# Altium schematic symbol library BLDC_BridgeBoard_V1.SCHLIB: 23 symbols
Pins are listed as number, name and electrical type; pins without a type are passive.

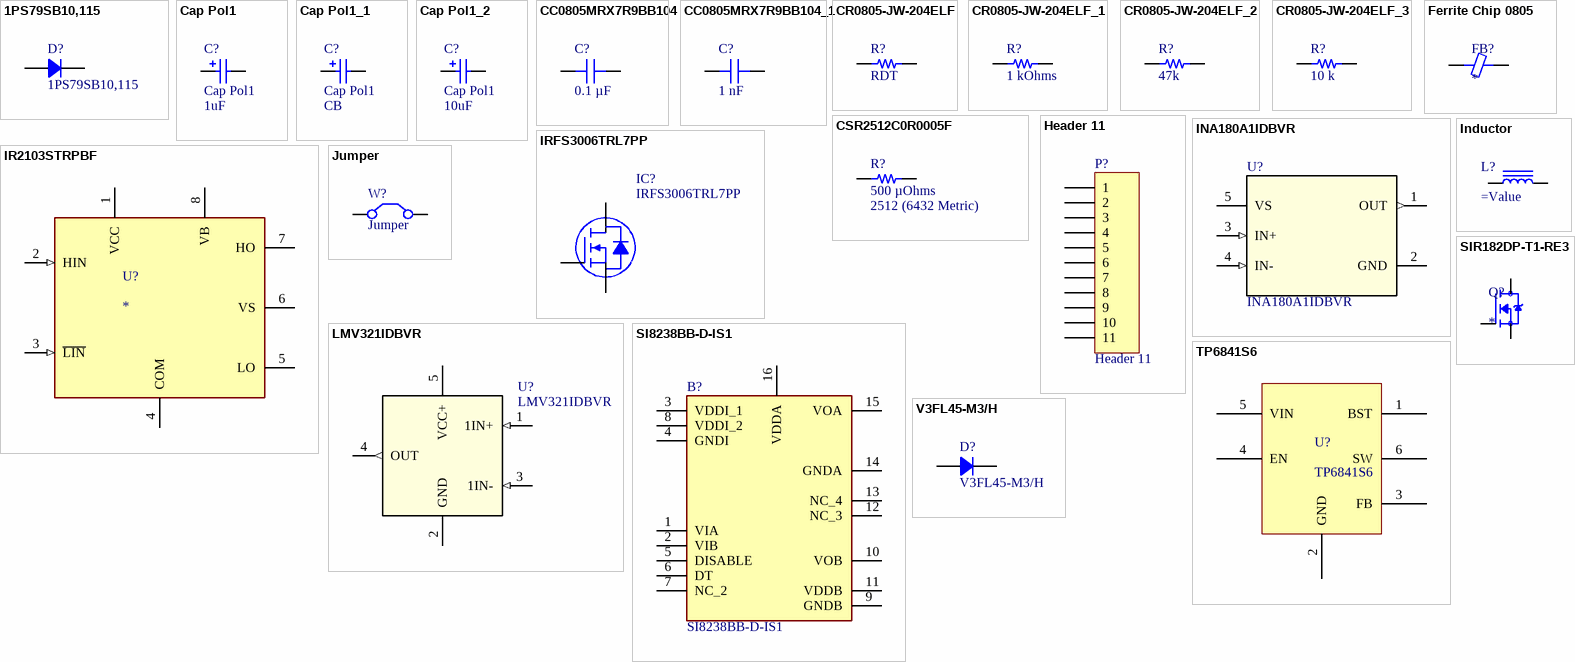
[diagram p0: symbols 1PS79SB10,115 to V3FL45-M3/H]

## 1PS79SB10,115
designator D?
DIODE SCHOTTKY 30V 200MA SOD523; Manufacturer: Nexperia USA Inc.; Capacitance @ Vr, F: 10pF @ 1V, 1MHz; Current - Reverse Leakage @ Vr: 2 µA @ 25 V; Speed: Small Signal =< 200mA (Io), Any Speed; Voltage - Forward (Vf) (Max) @ If: 800 mV @ 100 mA; Part Number: 1PS79SB10,115; ComponentLink1Description: Datasheet; ComponentLink1URL: https://assets.nexperia.com/documents/data-sheet/1PS79SB10.pdf; ComponentLink2Description: DigiKey Link; ComponentLink2URL: https://www.digikey.com/en/products/detail/nexperia-usa-inc/1PS79SB10-115/1229075; Current - Average Rectified (Io): 200mA; Diode Type: Schottky; LastUpdated: 23/11/2023 21:28:29; Lifecycle Status: Active; Minimum Order: 1; Mounting Type: Surface Mount; Operating Temperature - Junction: 125°C (Max); Package / Case: SC-79, SOD-523; Packaging: TapeAndReel; PartId: 2828; Part Status: Active; Price: 0.03; Series: -; Supplier 1: DigiKey; Supplier Part Number 1: 1727-4780-1-ND; Supplier Device Package: SOD-523; Voltage - DC Reverse (Vr) (Max): 30 V
footprint SOD-523
pins: 1, 2

## Cap Pol1
designator C?  value 1uF
Polarized Capacitor (Radial); Published: 8-Jun-2000; LatestRevisionDate: 17-Jul-2002; LatestRevisionNote: Re-released for DXP Platform.; PackageReference: RB7.6-15; Publisher: Altium Limited; PackageDescription: Polarized Capacitor (Radial); 2 Leads
footprint CapacitorRadialElectrolytic
simulation model CAP (Capacitor)
signal-integrity model Cap Pol
footprint CapacitorRadialElectrolytic
pins: 1, 2
1 alternate drawing of the same symbol

## Cap Pol1_1
designator C?, comment Cap Pol1  value CB
Polarized Capacitor (Radial); Published: 8-Jun-2000; LatestRevisionDate: 17-Jul-2002; LatestRevisionNote: Re-released for DXP Platform.; PackageReference: RB7.6-15; Publisher: Altium Limited; PackageDescription: Polarized Capacitor (Radial); 2 Leads
footprint CapacitorRadialElectrolytic
simulation model CAP (Capacitor)
signal-integrity model Cap Pol
footprint CapacitorRadialElectrolytic
pins: 1, 2
1 alternate drawing of the same symbol

## Cap Pol1_2
designator C?, comment Cap Pol1  value 10uF
Polarized Capacitor (Radial); Published: 8-Jun-2000; LatestRevisionDate: 17-Jul-2002; LatestRevisionNote: Re-released for DXP Platform.; PackageReference: RB7.6-15; Publisher: Altium Limited; PackageDescription: Polarized Capacitor (Radial); 2 Leads
footprint CapacitorRadialElectrolytic
simulation model CAP (Capacitor)
signal-integrity model Cap Pol
footprint CapacitorRadialElectrolytic
pins: 1, 2
1 alternate drawing of the same symbol

## CC0805MRX7R9BB104
designator C?, comment 0.1 µF
CAP CER 0.1UF 50V X7R 0805; Part Number: CC0805MRX7R9BB104; manufacturer: Yageo; Tolerance: ±20%; Value: 0.1 µF; Applications: General Purpose; Capacitance: 0.1 µF; componentlink1description: Datasheet; componentlink1url: https://www.yageo.com/upload/media/product/productsearch/datasheet/mlcc/UPY-GPHC_X7R_6.3V-to-50V_18.pdf; componentlink2description: DigiKey Link; componentlink2url: https://www.digikey.com/en/products/detail/yageo/CC0805MRX7R9BB104/5884281; Device Package: 0805 (2012 Metric); lastupdated: 15/11/2023 20:14:20; Lifecycle Status: Active; Minimum Order: 1; Mounting Type: Surface Mount, MLCC; Operating Temperature: -55°C ~ 125°C; Package / Case: 0805 (2012 Metric); packaging: TapeAndReel; partid: 2475; Part Status: Active; price: 0.01; series: CC; Size / Dimension: 0.079" L x 0.049" W (2.00mm x 1.25mm); Supplier 1: DigiKey; Supplier Part Number 1: 311-4351-1-ND; Temperature Coefficient: X7R; Thickness (Max): 0.037" (0.95mm); Voltage - Rated: 50V
footprint CAP 0805_2012
pins: 1, 2

## CC0805MRX7R9BB104_1
designator C?, comment 1 nF
CAP CER 0.1UF 50V X7R 0805; Part Number: CC0805MRX7R9BB104; manufacturer: Yageo; Capacitance: 0.1 µF; Tolerance: ±20%; Applications: General Purpose; componentlink1description: Datasheet; componentlink1url: https://www.yageo.com/upload/media/product/productsearch/datasheet/mlcc/UPY-GPHC_X7R_6.3V-to-50V_18.pdf; componentlink2description: DigiKey Link; componentlink2url: https://www.digikey.com/en/products/detail/yageo/CC0805MRX7R9BB104/5884281; Device Package: 0805 (2012 Metric); lastupdated: 15/11/2023 20:14:20; Lifecycle Status: Active; Minimum Order: 1; Mounting Type: Surface Mount, MLCC; Operating Temperature: -55°C ~ 125°C; Package / Case: 0805 (2012 Metric); packaging: TapeAndReel; partid: 2475; Part Status: Active; price: 0.01; series: CC; Size / Dimension: 0.079" L x 0.049" W (2.00mm x 1.25mm); Supplier 1: DigiKey; Supplier Part Number 1: 311-4351-1-ND; Temperature Coefficient: X7R; Thickness (Max): 0.037" (0.95mm); Voltage - Rated: 50V; Value: 1 nF
footprint CAP 0805_2012
pins: 1, 2

## CR0805-JW-204ELF
designator R?, comment RDT
RES SMD 200K OHM 5% 1/8W 0805; Part Number: CR0805-JW-204ELF; Manufacturer: Bourns Inc.; Power (Watts): 0.125W, 1/8W; Resistance: 200 kOhms; Temperature Coefficient: ±200ppm/°C; ComponentLink1Description: Datasheet; ComponentLink1URL: https://www.bourns.com/docs/product-datasheets/cr.pdf?sfvrsn=574d41f6_14; ComponentLink2Description: DigiKey Link; ComponentLink2URL: https://www.digikey.com/en/products/detail/bourns-inc/CR0805-JW-204ELF/3785267; Composition: Thick Film; Device Package: 0805 (2012 Metric); Features: Moisture Resistant; Height - Seated (Max): 0.024" (0.60mm); LastUpdated: 02/11/2023 20:02:13; Lifecycle Status: Active; Minimum Order: 1; Number of Terminations: 2; Operating Temperature: -55°C ~ 155°C; Package / Case: 0805 (2012 Metric); Packaging: TapeAndReel; PartId: 69673; Part Status: Active; Price: 0.01; Series: CR0805; Size / Dimension: 0.079" L x 0.049" W (2.00mm x 1.25mm); Supplier 1: DigiKey; Supplier Part Number 1: 118-CR0805-JW-204ELFCT-ND; Supplier Device Package: 0805; Tolerance: ±5%; Value: RDT
footprint RES 0805_2012
pins: 1, 2

## CR0805-JW-204ELF_1
designator R?, comment 1 kOhms
RES SMD 200K OHM 5% 1/8W 0805; Part Number: CR0805-JW-204ELF; Manufacturer: Bourns Inc.; Power (Watts): 0.125W, 1/8W; Resistance: 200 kOhms; Temperature Coefficient: ±200ppm/°C; Value: 1 kOhms; ComponentLink1Description: Datasheet; ComponentLink1URL: https://www.bourns.com/docs/product-datasheets/cr.pdf?sfvrsn=574d41f6_14; ComponentLink2Description: DigiKey Link; ComponentLink2URL: https://www.digikey.com/en/products/detail/bourns-inc/CR0805-JW-204ELF/3785267; Composition: Thick Film; Device Package: 0805 (2012 Metric); Features: Moisture Resistant; Height - Seated (Max): 0.024" (0.60mm); LastUpdated: 02/11/2023 20:02:13; Lifecycle Status: Active; Minimum Order: 1; Number of Terminations: 2; Operating Temperature: -55°C ~ 155°C; Package / Case: 0805 (2012 Metric); Packaging: TapeAndReel; PartId: 69673; Part Status: Active; Price: 0.01; Series: CR0805; Size / Dimension: 0.079" L x 0.049" W (2.00mm x 1.25mm); Supplier 1: DigiKey; Supplier Part Number 1: 118-CR0805-JW-204ELFCT-ND; Supplier Device Package: 0805; Tolerance: ±5%
footprint RES 0805_2012
pins: 1, 2

## CR0805-JW-204ELF_2
designator R?, comment 47k
RES SMD 200K OHM 5% 1/8W 0805; Part Number: CR0805-JW-204ELF; Manufacturer: Bourns Inc.; Power (Watts): 0.125W, 1/8W; Resistance: 200 kOhms; Temperature Coefficient: ±200ppm/°C; ComponentLink1Description: Datasheet; ComponentLink1URL: https://www.bourns.com/docs/product-datasheets/cr.pdf?sfvrsn=574d41f6_14; ComponentLink2Description: DigiKey Link; ComponentLink2URL: https://www.digikey.com/en/products/detail/bourns-inc/CR0805-JW-204ELF/3785267; Composition: Thick Film; Device Package: 0805 (2012 Metric); Features: Moisture Resistant; Height - Seated (Max): 0.024" (0.60mm); LastUpdated: 02/11/2023 20:02:13; Lifecycle Status: Active; Minimum Order: 1; Number of Terminations: 2; Operating Temperature: -55°C ~ 155°C; Package / Case: 0805 (2012 Metric); Packaging: TapeAndReel; PartId: 69673; Part Status: Active; Price: 0.01; Series: CR0805; Size / Dimension: 0.079" L x 0.049" W (2.00mm x 1.25mm); Supplier 1: DigiKey; Supplier Part Number 1: 118-CR0805-JW-204ELFCT-ND; Supplier Device Package: 0805; Tolerance: ±5%; Value: 47k
footprint RES 0805_2012
pins: 1, 2

## CR0805-JW-204ELF_3
designator R?, comment 10 k
RES SMD 200K OHM 5% 1/8W 0805; Part Number: CR0805-JW-204ELF; Manufacturer: Bourns Inc.; Power (Watts): 0.125W, 1/8W; Resistance: 200 kOhms; Temperature Coefficient: ±200ppm/°C; ComponentLink1Description: Datasheet; ComponentLink1URL: https://www.bourns.com/docs/product-datasheets/cr.pdf?sfvrsn=574d41f6_14; ComponentLink2Description: DigiKey Link; ComponentLink2URL: https://www.digikey.com/en/products/detail/bourns-inc/CR0805-JW-204ELF/3785267; Composition: Thick Film; Device Package: 0805 (2012 Metric); Features: Moisture Resistant; Height - Seated (Max): 0.024" (0.60mm); LastUpdated: 02/11/2023 20:02:13; Lifecycle Status: Active; Minimum Order: 1; Number of Terminations: 2; Operating Temperature: -55°C ~ 155°C; Package / Case: 0805 (2012 Metric); Packaging: TapeAndReel; PartId: 69673; Part Status: Active; Price: 0.01; Series: CR0805; Size / Dimension: 0.079" L x 0.049" W (2.00mm x 1.25mm); Supplier 1: DigiKey; Supplier Part Number 1: 118-CR0805-JW-204ELFCT-ND; Supplier Device Package: 0805; Tolerance: ±5%; Value: 10 k
footprint RES 0805_2012
pins: 1, 2

## CSR2512C0R0005F
designator R?, comment 500 µOhms  Package / Case: 2512 (6432 Metric)
RES SMD 500 UOHM 1% 3W 2512; Part Number: CSR2512C0R0005F; Manufacturer: Riedon; Temperature Coefficient: ±100ppm/°C; ComponentLink1Description: Datasheet; ComponentLink1URL: https://riedon.com/media/pdf/CSR.pdf; ComponentLink2Description: DigiKey Link; ComponentLink2URL: http://digikey.com/product-detail/en/riedon/CSR2512C0R0005F/696-1183-1-ND/2813308; Composition: Metal Element; Device Package: 2512 (6432 Metric); Features: Current Sense, Non-Inductive; Height - Seated (Max): 0.057" (1.45mm); LastUpdated: 25/11/2023 21:15:30; Lifecycle Status: Active; Minimum Order: 1; Number of Terminations: 2; Operating Temperature: -55°C ~ 170°C; Packaging: TapeAndReel; PartId: 3098; Part Status: Active; Power (Watts): 3W; Price: 0.20; Resistance: 500 µOhms; Series: CSR; Size / Dimension: 0.250" L x 0.118" W (6.35mm x 3.00mm); Supplier 1: DigiKey; Supplier Part Number 1: 696-1183-1-ND; Supplier Device Package: 2512; Tolerance: ±1%; Value: 500 µOhms
footprint STACKPOLE CSR2512
pins: 1, 2

## Ferrite Chip 0805
designator FB?
SMT Ferrite Chip
footprint FER 0805_2012 (Chip Ferrite, 2-Leads, Body 2.00x1.20mm, IPC Medium Density)
pins: 1, 2

## Header 11
designator P?
Header, 11-Pin; LatestRevisionDate: 17-Jul-2002; LatestRevisionNote: Re-released for DXP Platform.; Publisher: Altium Limited
footprint HDR1X11 (Connector; Header; 11 Position)
signal-integrity model Connector
pins: 1, 2, 3, 4, 5, 6, 7, 8, 9, 10, 11

## INA180A1IDBVR
designator U?
No Description Available; Mfr_Name: Texas Instruments; Type: DEV; RefDes: RefDes; Copyright: Copyright (C) 2023 Ultra Librarian. All rights reserved.; Manufacturer_Part_Number: INA180A1IDBVR
footprint DBV0005A_N
pins: 1 OUT (out), 2 GND (power), 3 IN+ (in), 4 IN- (in), 5 VS (power)

## Inductor
designator L?
SMT Inductor
footprint 1210 Inductor (2-Leads, Body 3.1x2.6mm, IPC Medium Density)
pins: 1, 2

## IR2103STRPBF
designator U?
Floating channel designed for bootstrap operation | Fully operational to +600 V | Tolerant to negative transient voltage | dV/dt immune | Gate drive supply range from 10 to 20 V | Undervoltage lockout | 3.3 V, 5 V, and 15 V logic input compatible | Cross-conduction prevention logic | Matched propagation delay for both channels | Internal set deadtime | High side output in phase with HIN input | Low side output out of phase with LIN input; MP: IR2103STRPBF; MF: Infineon; Availability: Unavailable; Value: *; Package: SOIC-8 International Rectifier; Price: None; SnapEDA_Link: https://www.snapeda.com/parts/IR2103STRPBF/Infineon%20Technologies/view-part/56821/?ref=snap
footprint SOIC8_IR2103STRPBF
pins: 1 VCC (power), 2 HIN (in), 3 ~{LIN} (in), 4 COM (power), 5 LO, 6 VS, 7 HO, 8 VB (power)

## IRFS3006TRL7PP
designator IC?
MOSFET N-CH 60V 240A D2PAK; Manufacturer: Infineon Technologies; Current - Continuous Drain (Id) @ 25°C: 240A (Tc); Drive Voltage (Max Rds On,  Min Rds On): 10V; FET Type: N-Channel; Gate Charge (Qg) (Max) @ Vgs: 300 nC @ 10 V; Input Capacitance (Ciss) (Max) @ Vds: 8850 pF @ 50 V; Power Dissipation (Max): 375W (Tc); Rds On (Max) @ Id, Vgs: 2.1mOhm @ 168A, 10V; Vgs (Max): ±20V; Vgs(th) (Max) @ Id: 4V @ 250µA; Part Number: IRFS3006TRL7PP; ComponentLink1Description: Datasheet; ComponentLink1URL: https://www.infineon.com/dgdl/irfs3006-7ppbf.pdf?fileId=5546d462533600a4015356364189214d; ComponentLink2Description: DigiKey Link; ComponentLink2URL: https://www.digikey.com/en/products/detail/infineon-technologies/IRFS3006TRL7PP/2096605; Drain to Source Voltage (Vdss): 60 V; LastUpdated: 01/11/2023 20:47:46; Lifecycle Status: Active; Minimum Order: 1; Mounting Type: Surface Mount; Operating Temperature: -55°C ~ 175°C (TJ); Package / Case: TO-263-7, D²Pak (6 Leads + Tab), TO-263CB; Packaging: TapeAndReel; Part Status: Active; Price: 2.81; Series: HEXFET®; Supplier 1: DigiKey; Supplier Part Number 1: IRFS3006TRL7PPCT-ND; Supplier Device Package: D2PAK (7-Lead); Technology: MOSFET (Metal Oxide)
footprint INFINEON TO-263-7
pins: 1 G, 2 S, 3 S, 5 S, 6 S, 7 S, 8 D

## Jumper
designator W?
Jumper Wire; Published: 24-Mar-1999; LatestRevisionDate: 17-Jul-2002; LatestRevisionNote: Re-released for DXP Platform.; PackageReference: RAD-0.2; Publisher: Altium Limited; PackageDescription: Radial Cap, Thru-Hole; 2 Leads; 0.2 in Pin Spacing
footprint Jumper_2_pos (2 pins jumper.)
pins: 1 C1, 2 C2

## LMV321IDBVR
designator U?
No Description Available; Mfr_Name: Texas Instruments; Copyright: Copyright (C) 2023 Ultra Librarian. All rights reserved.; Manufacturer_Part_Number: LMV321IDBVR; RefDes: RefDes; Type: DEV
footprint DBV5
pins: 1 1IN+ (in), 2 GND (power), 3 1IN- (in), 4 OUT (out), 5 VCC+ (power)

## SI8238BB-D-IS1
designator B?
SILICON LABS - SI8238BB-D-IS1 - DIGITAL ISOLATOR, 30NS, NSOIC-16; Geometry.Height: 1.75mm; Manufacturer_Name: Silicon Labs; Manufacturer_Part_Number: SI8238BB-D-IS1; Mouser Part Number: 634-SI8238BB-D-IS1; Mouser Price/Stock: https://www.mouser.co.uk/ProductDetail/Silicon-Labs/SI8238BB-D-IS1?qs=p9T7GgSe1IEr3RhvGCWqzw%3D%3D; Arrow Part Number: SI8238BB-D-IS1; Arrow Price/Stock: https://www.arrow.com/en/products/si8238bb-d-is1/silicon-labs; Datasheet Link: https://datasheet.datasheetarchive.com/originals/distributors/DKDS-37/728994.pdf
footprint SOIC127P600X175-16N
pins: 1 VIA, 2 VIB, 3 VDDI_1, 4 GNDI, 5 DISABLE, 6 DT, 7 NC_2, 8 VDDI_2, 9 GNDB, 10 VOB, 11 VDDB, 12 NC_3, 13 NC_4, 14 GNDA, 15 VOA, 16 VDDA

## SIR182DP-T1-RE3
designator Q?
N-Channel 60V 60A _Tc_ 69.4W _Tc_ Surface Mount PowerPAKÂ® SO-8; MP: SIR182DP-T1-RE3; MF: Vishay Siliconix; SnapEDA_Link: https://www.snapeda.com/parts/SIR182DP-T1-RE3/Vishay%20Siliconix/view-part/3228614/?ref=snap; Availability: Unavailable; Value: *; Price: None; Package: SO-8 Vishay Siliconix
footprint TRANS_SIR182DP-T1-RE3
pins: 1 S, 2 S, 3 S, 4 G, 5 D, 6 D, 7 D, 8 D, 9 D

## TP6841S6
designator U?
TP6841S6 Power Supply. 4.5 to 40 V input voltage. Up to 800 mA output current.; ComponentLink1Description: New link; ComponentLink1URL: *
footprint SOT95P280X125-6M (SOT23, 6-Leads, Body 2,92x2,80mm, Pitch 0,95mm, IPC Low Density)
pins: 1 BST "BOOTSTRAP", 2 GND, 3 FB "FEEDBACK", 4 EN "ENABLE", 5 VIN, 6 SW

## V3FL45-M3/H
designator D?
3A,45V,SMF,TRENCH SKY RECT.; Manufacturer: Vishay Semiconductor Diodes Division; Capacitance @ Vr, F: 370pF @ 4V, 1MHz; Current - Reverse Leakage @ Vr: 750µA @ 45V; Diode Type: Schottky; Speed: Fast Recovery =< 500ns, > 200mA (Io); Voltage - Forward (Vf) (Max) @ If: 580mV @ 3A; Part Number: V3FL45-M3/H; ComponentLink1Description: Datasheet; ComponentLink1URL: http://www.vishay.com/docs/87568/v3fl45.pdf; ComponentLink2Description: DigiKey Link; ComponentLink2URL: http://digikey.com/product-detail/en/vishay-semiconductor-diodes-division/V3FL45-M3-H/V3FL45-M3-HGICT-ND/9360099; Current - Average Rectified (Io): 3A; LastUpdated: 24/11/2023 21:33:22; Lifecycle Status: Active; Minimum Order: 1; Mounting Type: Surface Mount; Operating Temperature - Junction: -40°C ~ 150°C; Package / Case: DO-219AB; Packaging: TapeAndReel; PartId: 1303; Part Status: Active; Price: 0.10; Series: eSMP®, TMBS®; Supplier 1: DigiKey; Supplier Part Number 1: V3FL45-M3/HGICT-ND; Supplier Device Package: DO-219AB (SMF); Voltage - DC Reverse (Vr) (Max): 45V
footprint SMF DO-219AB
pins: 1, 2